# EAGLE library part CONN_SCREWTERM_5.08MM_12POS (library power_distro)
TERM BLOCK HDR 12POS 5.08MM
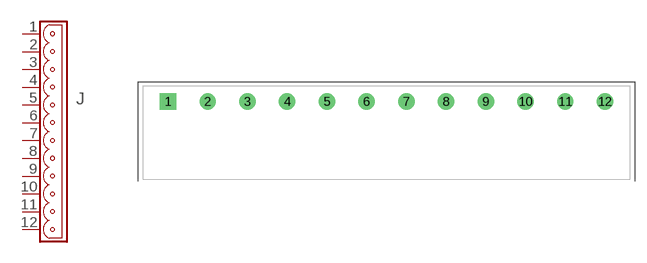
[diagram p10: symbol with the pads of OST_OSTTJ125153; footprint OST_OSTTJ125153]

Designator prefix J

## CONN_SCREWTERM_5.08MM_12POS (MFG: ON SHORE TECH; MPN: EDSTLZ950/12; PRICE: 4.29; VENDOR: DIGIKEY; VPN: ED1827-ND)  [OST_OSTTJ125153]
1  1  pas
2  2  pas
3  3  pas
4  4  pas
5  5  pas
6  6  pas
7  7  pas
8  8  pas
9  9  pas
10  10  pas
11  11  pas
12  12  pas

## Footprint OST_OSTTJ125153 (pad centres in mm)
OSTTJ 5.08 x 12 Screw terminal socket
drill 1.4 square: 1 -27.94,0
drill 1.4 round: 2 -22.86,0; 3 -17.78,0; 4 -12.7,0; 5 -7.62,0; 6 -2.54,0; 7 2.54,0; 8 7.62,0; 9 12.7,0; 10 17.78,0; 11 22.86,0; 12 27.94,0